# Altium schematic symbol library ADC.SchLib: 11 symbols
Pins are listed as number, name and electrical type; pins without a type are passive.

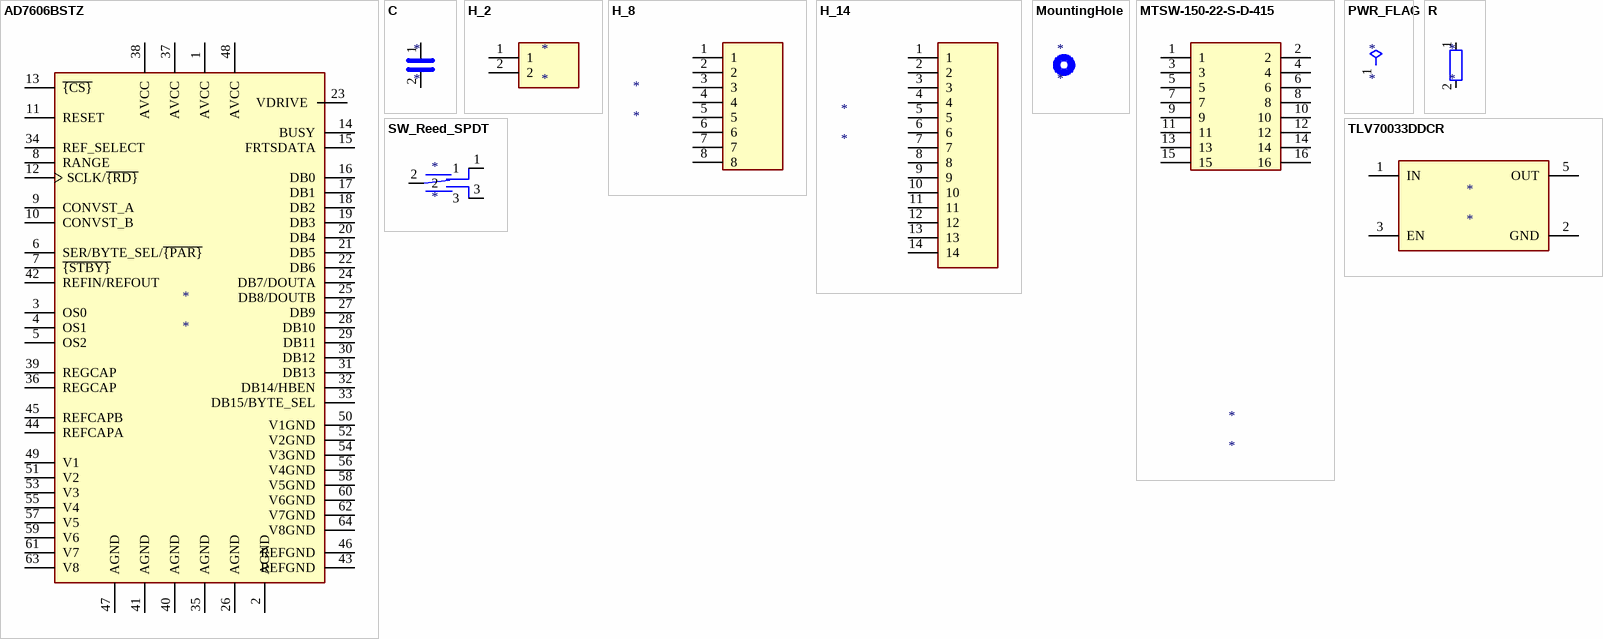
[diagram p0: symbols AD7606BSTZ to TLV70033DDCR]

## AD7606BSTZ
designator *
pins: 1 AVCC, 2 AGND, 3 OS0, 4 OS1, 5 OS2, 6 SER/BYTE_SEL/~{{PAR}}, 7 ~{{STBY}}, 8 RANGE, 9 CONVST_A, 10 CONVST_B, 11 RESET, 12 SCLK/~{{RD}}, 13 ~{{CS}}, 14 BUSY, 15 FRTSDATA, 16 DB0, 17 DB1, 18 DB2, 19 DB3, 20 DB4, 21 DB5, 22 DB6, 23 VDRIVE, 24 DB7/DOUTA, 25 DB8/DOUTB, 26 AGND, 27 DB9, 28 DB10, 29 DB11, 30 DB12, 31 DB13, 32 DB14/HBEN, 33 DB15/BYTE_SEL, 34 REF_SELECT, 35 AGND, 36 REGCAP, 37 AVCC, 38 AVCC, 39 REGCAP, 40 AGND, 41 AGND, 42 REFIN/REFOUT, 43 REFGND, 44 REFCAPA, 45 REFCAPB, 46 REFGND, 47 AGND, 48 AVCC, 49 V1, 50 V1GND, 51 V2, 52 V2GND, 53 V3, 54 V3GND, 55 V4, 56 V4GND, 57 V5, 58 V5GND, 59 V6, 60 V6GND, 61 V7, 62 V7GND, 63 V8, 64 V8GND

## C
designator *
pins: 1, 2

## H_2
designator *
pins: 1, 2

## H_8
designator *
pins: 1, 2, 3, 4, 5, 6, 7, 8

## H_14
designator *
pins: 1, 2, 3, 4, 5, 6, 7, 8, 9, 10, 11, 12, 13, 14

## MountingHole
designator *

## MTSW-150-22-S-D-415
designator *
pins: 1, 2, 3, 4, 5, 6, 7, 8, 9, 10, 11, 12, 13, 14, 15, 16

## PWR_FLAG
designator *  (graphical)
pins: 1

## R
designator *
pins: 1, 2

## SW_Reed_SPDT
designator *
pins: 1, 2, 3

## TLV70033DDCR
designator *
pins: 1 IN, 2 GND, 3 EN, 5 OUT